# EAGLE library part JS5208 (library Library_Mateusz.Kowalec)
NAVIGATION, Surface Mount Source: Datasheet <https://configured-product-images.s3.amazonaws.com/2D/specs/JS5208.pdf>
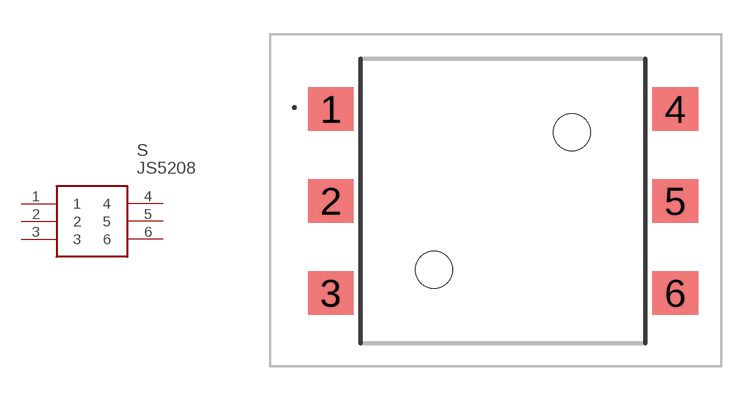
[diagram p2: symbol with the pads of JS5208; footprint JS5208]

Designator prefix S

## JS5208 (DESCRIPTION: NAVIGATION, Surface Mount; HEIGHT: 12.2mm; MANUFACTURER_NAME: E-Switch; MANUFACTURER_PART_NUMBER: JS5208; MOUSER_PART_NUMBER: 612-JS5208; MOUSER_PRICE-STOCK: https://www.mouser.co.uk/ProductDetail/E-Switch/JS5208?qs=f57gQzlyLiqOzqNCAUlPQg%3D%3D)  [JS5208]
1  1
2  2
3  3
4  4
5  5
6  6

## Footprint JS5208 (pad centres in mm)
JS5208
smd 2 x 1.9: 1 -6.683,3.975; 2 -6.683,-0.025; 3 -6.683,-4.025; 4 8.317,3.975; 5 8.317,-0.025; 6 8.317,-4.025
hole 1.6 at 3.817,2.975
hole 1.6 at -2.183,-3.025